# EAGLE library part FT2232D (library USB)
FT2232D - Dual USB to Serial UART/FIFO IC Link zum Datenblatt: http://www.ftdichip.com/Support/Documents/DataSheets/ICs/DS_FT2232D.pdf Distributoren: Digi-Key Teilenummer: 768-1010-1-ND Mouser-Teilenr.: 895-FT2232D Farnell Best.Nr.: 1615843 Created by: Ch!
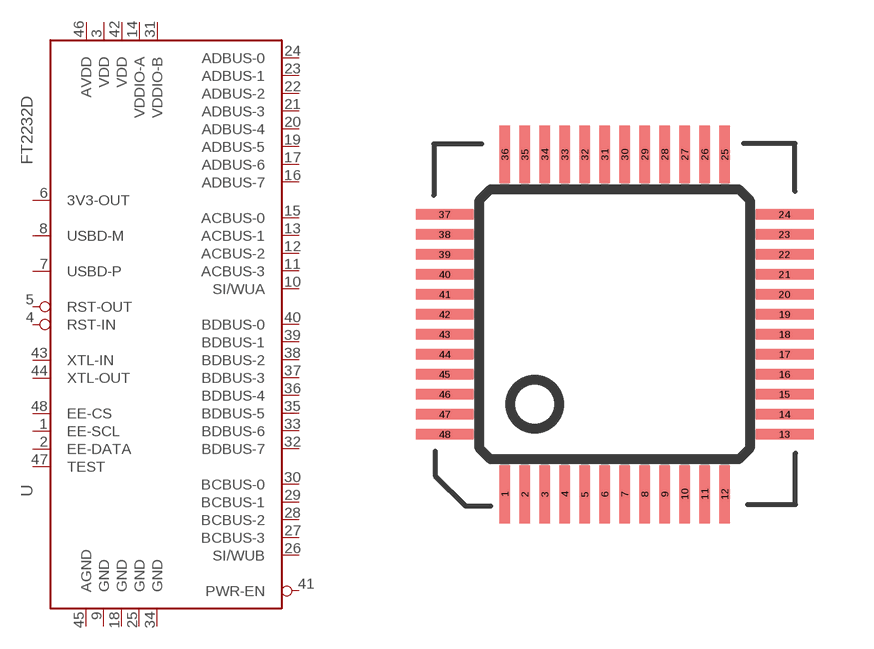
[diagram p13: symbol with the pads of LQFP48; footprint LQFP48]

Designator prefix -

## FT2232D  [LQFP48]
1  EE-SCL
2  EE-DATA
3  VDD  pwr
4  RST-IN
5  RST-OUT
6  3V3-OUT
7  USBD-P
8  USBD-M
9  GND  pwr
10  SI/WUA  pwr
11  ACBUS-3
12  ACBUS-2
13  ACBUS-1  nc
14  VDDIO-A  pwr
15  ACBUS-0  nc
16  ADBUS-7  nc
17  ADBUS-6  nc
18  GND  pwr
19  ADBUS-5  nc
20  ADBUS-4
21  ADBUS-3
22  ADBUS-2
23  ADBUS-1
24  ADBUS-0
25  GND  pwr
26  SI/WUB  pwr
27  BCBUS-3  nc
28  BCBUS-2  nc
29  BCBUS-1  nc
30  BCBUS-0  nc
31  VDDIO-B  pwr
32  BDBUS-7  nc
33  BDBUS-6  nc
34  GND  pwr
35  BDBUS-5  nc
36  BDBUS-4  nc
37  BDBUS-3  nc
38  BDBUS-2  nc
39  BDBUS-1
40  BDBUS-0
41  PWR-EN  nc
42  VDD  pwr
43  XTL-IN
44  XTL-OUT
45  AGND  pwr
46  AVDD  pwr
47  TEST  pwr
48  EE-CS

## Footprint LQFP48 (pad centres in mm)
48-pin plastic LQFP Footprint unter: http://www.nxp.com/acrobat_download2/packages/footprint/FOOTPRINT-HTQFP-HLQFP-LQFP-REFLOW.pdf Anmerkung: Pads für Handlötung verlängert
smd 0.27 x 1.45: 1 -2.75,-4.25; 2 -2.25,-4.25; 3 -1.75,-4.25; 4 -1.25,-4.25; 5 -0.75,-4.25; 6 -0.25,-4.25; 7 0.25,-4.25; 8 0.75,-4.25; 9 1.25,-4.25; 10 1.75,-4.25; 11 2.25,-4.25; 12 2.75,-4.25; 25 2.75,4.25; 26 2.25,4.25; 27 1.75,4.25; 28 1.25,4.25; 29 0.75,4.25; 30 0.25,4.25; 31 -0.25,4.25; 32 -0.75,4.25; 33 -1.25,4.25; 34 -1.75,4.25; 35 -2.25,4.25; 36 -2.75,4.25
smd 1.45 x 0.27: 13 4.25,-2.75; 14 4.25,-2.25; 15 4.25,-1.75; 16 4.25,-1.25; 17 4.25,-0.75; 18 4.25,-0.25; 19 4.25,0.25; 20 4.25,0.75; 21 4.25,1.25; 22 4.25,1.75; 23 4.25,2.25; 24 4.25,2.75; 37 -4.25,2.75; 38 -4.25,2.25; 39 -4.25,1.75; 40 -4.25,1.25; 41 -4.25,0.75; 42 -4.25,0.25; 43 -4.25,-0.25; 44 -4.25,-0.75; 45 -4.25,-1.25; 46 -4.25,-1.75; 47 -4.25,-2.25; 48 -4.25,-2.75